# Altium schematic symbol library minicircuits-TCMx.SchLib: 1 symbol
Pins are listed as number, name and electrical type; pins without a type are passive.

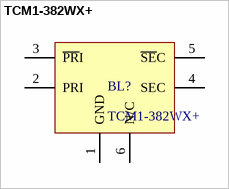
[diagram p0: symbol TCM1-382WX+]

## TCM1-382WX+
designator BL?
1:1 CORE & WIRE Transformer, 0.5 - 3800 MHz, 50Ω
footprint DB1627 (MiniCircuits DB1627)
pins: 1 GND (power), 2 PRI (power), 3 ~{PR}I (power), 4 SEC (power), 5 ~{SE}C (power), 6 N/C (power)